# Altium schematic symbol library GRM188R71E474KA12D.SchLib: 1 symbol
Pins are listed as number, name and electrical type; pins without a type are passive.

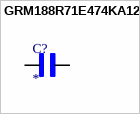
[diagram p0: symbol GRM188R71E474KA12D]

## GRM188R71E474KA12D
designator C?
SMD capacitor X7R(EIA) with capacitance 0.47uF Tol.10%. Rated voltage 25Vdc 125C; MF: Murata; MP: GRM188R71E474KA12D; SnapEDA_Link: https://www.snapeda.com/parts/GRM188R71E474KA12D/Murata/view-part/?ref=snap; Package: 1608 Murata; Value: *; Check_prices: https://www.snapeda.com/parts/GRM188R71E474KA12D/Murata/view-part/?ref=eda
footprint CAPC1608X90N
pins: 1, 2